# EAGLE library part PIC18F25J50-X_SO (library pic18f25)
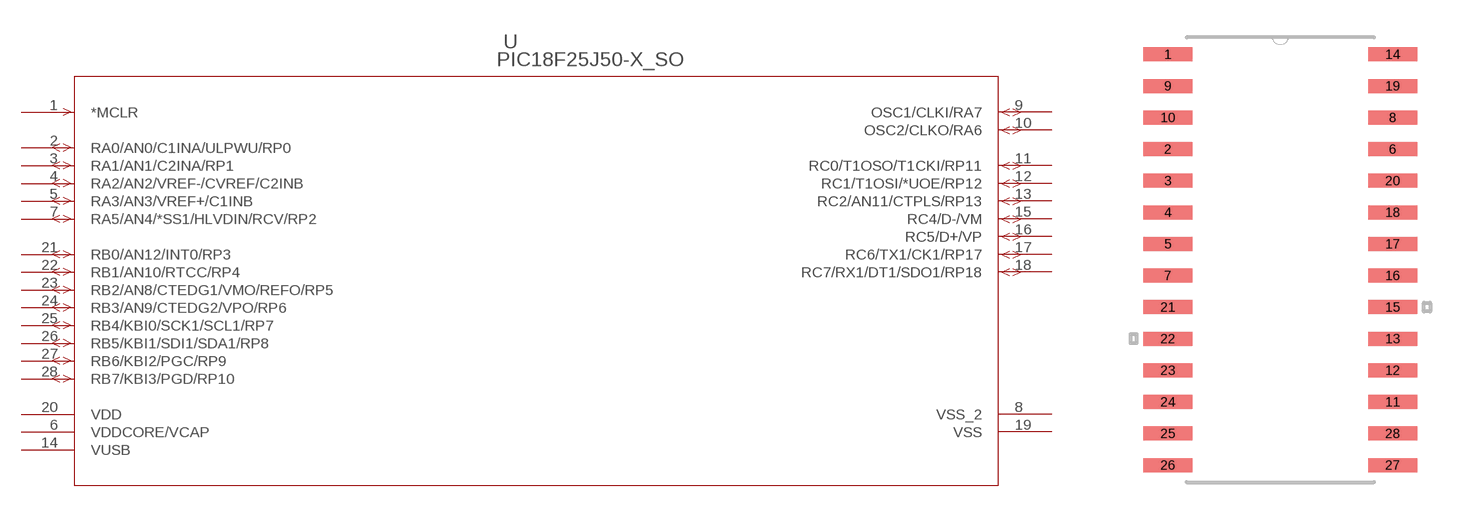
[diagram p0: symbol with the pads of SOIC28-W_MC; footprint SOIC28-W_MC]

Designator prefix -

## PIC18F25J50-X_SO  [SOIC28-W_MC]
1  *MCLR  in
2  RA0/AN0/C1INA/ULPWU/RP0
3  RA1/AN1/C2INA/RP1
4  RA2/AN2/VREF-/CVREF/C2INB
5  RA3/AN3/VREF+/C1INB
6  VDDCORE/VCAP  pwr
7  RA5/AN4/*SS1/HLVDIN/RCV/RP2
8  VSS_2  pwr
9  OSC1/CLKI/RA7
10  OSC2/CLKO/RA6
11  RC0/T1OSO/T1CKI/RP11
12  RC1/T1OSI/*UOE/RP12
13  RC2/AN11/CTPLS/RP13
14  VUSB  pwr
15  RC4/D-/VM
16  RC5/D+/VP
17  RC6/TX1/CK1/RP17
18  RC7/RX1/DT1/SDO1/RP18
19  VSS  pwr
20  VDD  pwr
21  RB0/AN12/INT0/RP3
22  RB1/AN10/RTCC/RP4
23  RB2/AN8/CTEDG1/VMO/REFO/RP5
24  RB3/AN9/CTEDG2/VPO/RP6
25  RB4/KBI0/SCK1/SCL1/RP7
26  RB5/KBI1/SDI1/SDA1/RP8
27  RB6/KBI2/PGC/RP9
28  RB7/KBI3/PGD/RP10

## Footprint SOIC28-W_MC (pad centres in mm)
smd 1.981 x 0.559: 1 -4.515,8.255; 2 -4.515,4.445; 3 -4.515,3.175; 4 -4.515,1.905; 5 -4.515,0.635; 6 4.515,4.445; 7 -4.515,-0.635; 8 4.515,5.715; 9 -4.515,6.985; 10 -4.515,5.715; 11 4.515,-5.715; 12 4.515,-4.445; 13 4.515,-3.175; 14 4.515,8.255; 15 4.515,-1.905; 16 4.515,-0.635; 17 4.515,0.635; 18 4.515,1.905; 19 4.515,6.985; 20 4.515,3.175; 21 -4.515,-1.905; 22 -4.515,-3.175; 23 -4.515,-4.445; 24 -4.515,-5.715; 25 -4.515,-6.985; 26 -4.515,-8.255; 27 4.515,-8.255; 28 4.515,-6.985